# EAGLE library part SAM-M10Q (library SAM-M10Q)
- RF Receiver Galileo, GLONASS, GPS 1.575GHz, 1.602GHz -165dBm 400kbps On-Board, Patch Module Source: Datasheet <https://content.u-blox.com/sites/default/files/documents/SAM-M10Q_IntegrationManual_UBX-22020019.pdf>
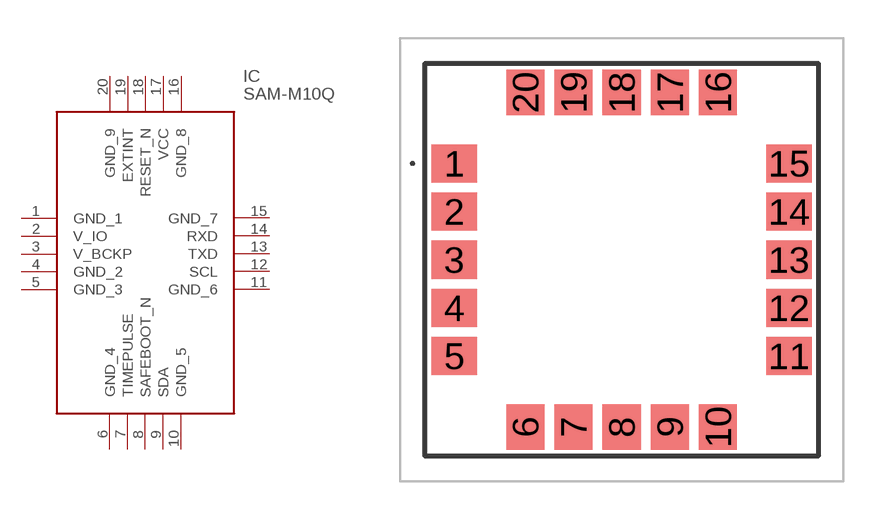
[diagram p0: symbol with the pads of SAMM10Q; footprint SAMM10Q]

Designator prefix IC

## SAM-M10Q (Description: - RF Receiver Galileo, GLONASS, GPS 1.575GHz, 1.602GHz -165dBm 400kbps On-Board, Patch Module; Height: 6.8mm; Manufacturer_Name: u-blox; Manufacturer_Part_Number: SAM-M10Q; Mouser_Part_Number: N/A; Mouser_Price-Stock: https://www.mouser.co.uk/ProductDetail/u-blox/SAM-M10Q?qs=vvQtp7zwQdOcUykyQtAdbA%3D%3D)  [SAMM10Q]
1  GND_1
2  V_IO
3  V_BCKP
4  GND_2
5  GND_3
6  GND_4
7  TIMEPULSE
8  SAFEBOOT_N
9  SDA
10  GND_5
11  GND_6
12  SCL
13  TXD
14  RXD
15  GND_7
16  GND_8
17  VCC
18  RESET_N
19  EXTINT
20  GND_9

## Footprint SAMM10Q (pad centres in mm)
20-SMD Module
smd 1.8 x 1.5: 1 -6.6,3.8; 2 -6.6,1.9; 3 -6.6,0; 4 -6.6,-1.9; 5 -6.6,-3.8; 11 6.6,-3.8; 12 6.6,-1.9; 13 6.6,0; 14 6.6,1.9; 15 6.6,3.8
smd 1.5 x 1.8: 6 -3.8,-6.6; 7 -1.9,-6.6; 8 0,-6.6; 9 1.9,-6.6; 10 3.8,-6.6; 16 3.8,6.6; 17 1.9,6.6; 18 0,6.6; 19 -1.9,6.6; 20 -3.8,6.6